# EAGLE library part 750032051 (library WE-FB 3751)
WE-FB 3751 Flyback Transformer for LT3751 Characteristics Isolation voltage: 1 kVAC Operating temperature: –40 ºC to +125 ºC (incl. self-heating) Especially designed for LT3751 Applications Transformer for capacitor charger or high voltage outputs <https://www.we-online.com/components/media/o14782v209%20Family_WE-FB_3751.jpg> Details see: www.we-online.com/en/components/products/WE-FB-3751 <www.we-online.com/catalog/WE-FB-3751/?utm_source=eagle_model&utm_medium=description_link&utm_campaign=eisos_eagle> Updated by Ella 2025-02-14 2025(C) Wurth Elektronik
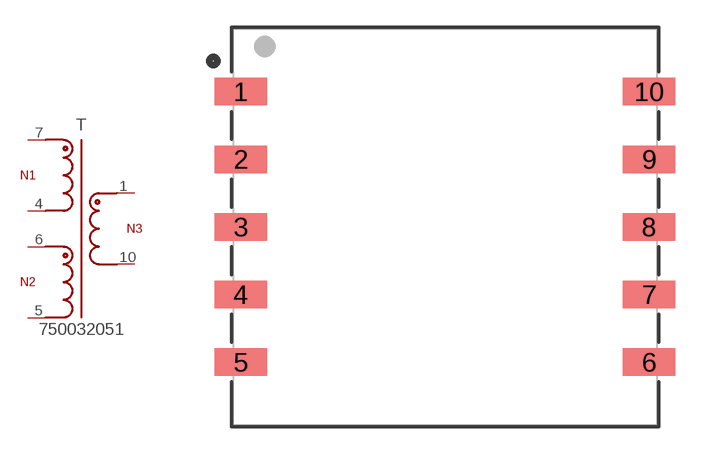
[diagram p0: symbol with the pads of WE-FB3751_EFD20; footprint WE-FB3751_EFD20]

Designator prefix T

## 750032051 (DATASHEET-URL: https://www.we-online.com/redexpert/spec/750032051?ae; IOUT: 150mA; ISAT: 5A; L: 10uH; LS: 0.05uH; N: 1:10; PART-NUMBER: 750032051; SIZE: EFD20; VALUE: 3 - 24Vin; VIN: 3 - 24 V (DC); VOUT: 300V; VT: 1000 V(AC))  [WE-FB3751_EFD20]
1  1  pas
4  4  pas
5  5  pas
6  6  pas
7  7  pas
10  10  pas

## Footprint WE-FB3751_EFD20 (pad centres in mm)
WE-FB 3751 Flyback Transformer for LT3751 Size: EE35/18/10,SMT,10pins LXHXH = 21.97X28.7X11.43mm
smd 2.92 x 1.52: 1 -11.33,7.5; 2 -11.33,3.75; 3 -11.33,0; 4 -11.33,-3.75; 5 -11.33,-7.5; 6 11.33,-7.5; 7 11.33,-3.75; 8 11.33,0; 9 11.33,3.75; 10 11.33,7.5